# EAGLE library part ADS1248 (library Lysenko_Eagle_Lib)
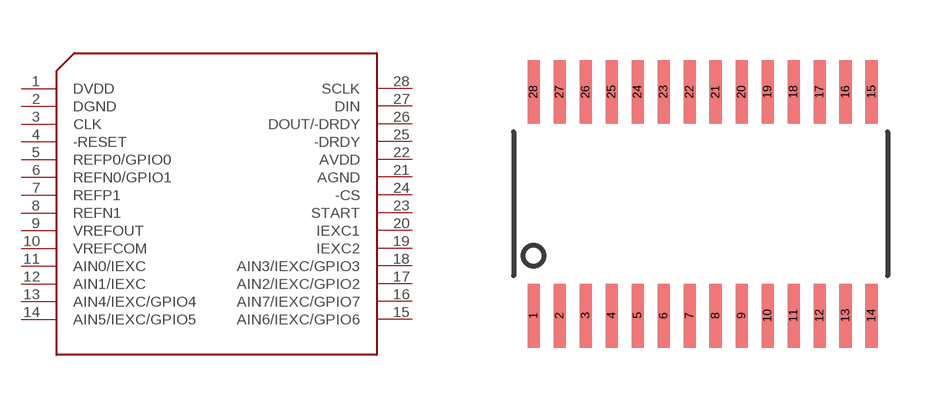
[diagram p23: symbol with the pads of TSSOP-28; footprint TSSOP-28]

Designator prefix -

## ADS1248  [TSSOP-28]
1  DVDD
2  DGND
3  CLK
4  -RESET
5  REFP0/GPIO0
6  REFN0/GPIO1
7  REFP1
8  REFN1
9  VREFOUT
10  VREFCOM
11  AIN0/IEXC
12  AIN1/IEXC
13  AIN4/IEXC/GPIO4
14  AIN5/IEXC/GPIO5
15  AIN6/IEXC/GPIO6
16  AIN7/IEXC/GPIO7
17  AIN2/IEXC/GPIO2
18  AIN3/IEXC/GPIO3
19  IEXC2
20  IEXC1
21  AGND
22  AVDD
23  START
24  -CS
25  -DRDY
26  DOUT/-DRDY
27  DIN
28  SCLK

## Footprint TSSOP-28 (pad centres in mm)
smd 0.3 x 1.6: 1 0,0; 2 0.65,0; 3 1.3,0; 4 1.95,0; 5 2.6,0; 6 3.25,0; 7 3.9,0; 8 4.55,0; 9 5.2,0; 10 5.85,0; 11 6.5,0; 12 7.15,0; 13 7.8,0; 14 8.45,0; 15 8.45,5.6; 16 7.8,5.6; 17 7.15,5.6; 18 6.5,5.6; 19 5.85,5.6; 20 5.2,5.6; 21 4.55,5.6; 22 3.9,5.6; 23 3.25,5.6; 24 2.6,5.6; 25 1.95,5.6; 26 1.3,5.6; 27 0.65,5.6; 28 0,5.6